# Altium schematic symbol library OpAmp_Sch.SchLib: 10 symbols
Pins are listed as number, name and electrical type; pins without a type are passive.

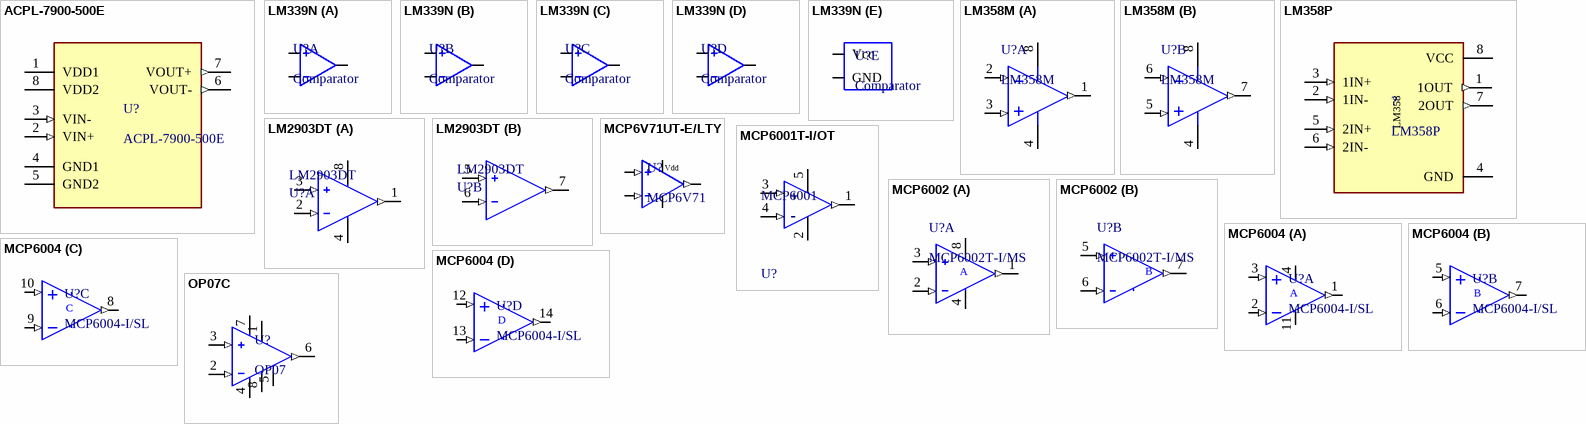
[diagram p0: symbols ACPL-7900-500E to OP07C]

## ACPL-7900-500E
designator U?
Isolation Amplifier 1 Circuit 8-DIP Gull Wing; MP: ACPL-7900-300E; MF: Broadcom Limited; Package: DIP-8 Broadcom; Mouser-Purchase-URL: https://snapeda.com/shop?store=Mouser&id=2642104; Availability: Warning; Price: None; Value: *; SnapEDA_Link: https://www.snapeda.com/parts/ACPL-7900-300E/Broadcom%20Limited/view-part/2642104/?ref=snap
footprint Option300
footprint PDIP-8
pins: 1 VDD1 (power), 2 VIN+ (in), 3 VIN- (in), 4 GND1, 5 GND2, 6 VOUT- (out), 7 VOUT+ (out), 8 VDD2 (power)

## LM339N
designator U?, comment Comparator
Quad Voltage Comparators
footprint PDIP-14
part A pins: 2 Output 1, 4 Input 1(-), 5 Input 1(+)
part B pins: 1 Output 2, 6 Input 2(-), 7 Input 2(+)
part C pins: 8 Input 3(-), 9 Input 3(+), 14 Output 3
part D pins: 10 Input 4(-), 11 Input 4(+), 13 Output 4
part E pins: 3 Vcc, 12 GND

## LM358M
designator U?
Low Power Dual Operational Amplifier, 8-pin Narrow SOIC; Manufacturer: Texas Instruments; PackageTopMarking: NSZXTT*LM*358M; CompType: Amplifiers; PowerWise: N; PackageDescription: SOIC Narrow, 4.9 x 3.9 x 1.45mm, 8 Lead, 1.27mm Pitch; PinCount: 8; RoHS: N; Code_JEDEC: MS-012-AA; ComponentLink1Description: Datasheet URL; Code_IPC: SOIC127P600-8; ComponentLink1URL: http://www.ti.com/general/docs/lit/getliterature.tsp?genericPartNumber=LM358-N&fileType=pdf; Package Reference: D0008A
footprint D0008A_N (SOIC, 8-Leads, Body 5x4mm, Pitch 1.27mm, IPC Medium Density)
footprint D0008A_M (SOIC, 8-Leads, Body 5x4mm, Pitch 1.27mm, IPC Low Density)
footprint D0008A_L (SOIC, 8-Leads, Body 5x4mm, Pitch 1.27mm, IPC High Density)
pins on every part: 4 GND (power), 8 V+ (power)
part A pins: 1 OUTA (out), 2 INA- (in), 3 INA+ (in)
part B pins: 5 INB+ (in), 6 INB- (in), 7 OUTB (out)

## LM358P
designator ?
Dual Operational Amplifiers; MF: Texas Instruments; Package: PDIP-8 Texas Instruments; DigiKey-Purchase-URL: https://snapeda.com/shop?store=DigiKey&id=559457; MP: LM358P; Arrow_Electronics-Purchase-URL: https://snapeda.com/shop?store=Arrow+Electronics&id=559457; Price: None; Texas_Instruments-Purchase-URL: https://snapeda.com/shop?store=Texas+Instruments&id=559457; Value: *; Availability: Unavailable; SnapEDA_Link: https://www.snapeda.com/parts/LM358P/Texas%20Instruments/view-part/559457/?ref=snap; Mouser-Purchase-URL: https://snapeda.com/shop?store=Mouser&id=559457
footprint PDIP-8
pins: 1 1OUT (out), 2 1IN- (in), 3 1IN+ (in), 4 GND (power), 5 2IN+ (in), 6 2IN- (in), 7 2OUT (out), 8 VCC (power)
text: LM358

## LM2903DT
designator U?
IC COMPARATOR LP DUAL 8-SOIC; Manufacturer: STMicroelectronics; Min Supply Voltage: 2V; Number Of Channels: 2; Input Offset Voltage: 1mV; Nominal Supply Current: 0.4-1mA; Output Current Per Channel: 16mA; Response Time: 1.3us; Voltage Gain: 200V/mV; Max Supply Voltage: 36V; Min Dual Supply Voltage: 1V; Standoff Height: 0.1mm; Input Bias Current: 0.025uA; Max Dual Supply Voltage: 18V; Max Junction Temp: +150°C; Height: 1.75mm; Device Class L2: Linear ICs; Temperature Range High: +150°C; Ambient Temperature Range Low: -40°C; Category: IC; Package: SO8-SO-A; Footprint Url: https://www.st.com/content/ccc/resource/technical/document/datasheet/group3/16/9a/68/4c/7d/03/4a/09/DM00396770/files/DM00396770.pdf/jcr:content/translations/en.DM00396770.pdf; Ipc Land Pattern Name: SOIC127P600X175-8; Octopart: https://octopart.com/lm2903dt-stmicroelectronics-428473; ComponentLink2URL: https://www.st.com/content/ccc/resource/technical/document/datasheet/44/f7/9d/99/42/20/45/fd/CD00000534.pdf/files/CD00000534.pdf/jcr:content/translations/en.CD00000534.pdf; Ambient Temperature Range High: +125°C; Device Class L1: Integrated Circuits (ICs); Device Class L3: Comparators; Digikey Description: IC COMPARATOR LP DUAL 8-SOIC; Automotive: No; ComponentLink2Description: Datasheet; Lead Free: Yes; Manufacturer Part Number: LM2903DT; Mouser Description: Analog Comparators Lo-Pwr Dual Voltage; Temperature: to +150°C; RoHS: TRUE
footprint FP-SO8-SO-A-MFG
footprint FP-SO8-SO-A-IPC_C
footprint FP-SO8-SO-A-IPC_B
footprint FP-SO8-SO-A-IPC_A
part A pins: 1 Out1 (out), 2 In1- (in), 3 In1+ (in), 4 VCC- (power), 8 VCC+ (power)
part B pins: 5 In2+ (in), 6 In2- (in), 7 Out2 (out)

## MCP6V71UT-E/LTY
designator U?, comment MCP6V71
MICROCHIP         MCP6V71UT-E/LTY             OP-AMP, SINGLE, 2MHZ, 1V/US, SC-70-5; Min Supply Voltage: 2V; Max Supply Voltage: 5.5V; Voltage Gain: 137dB; Number of Circuits: 1; Slew Rate: 1V/µs; Input Bias Current: 1pA; Input Offset Voltage (Vos): 8uV; Operating Supply Current: 170uA; Output Current per Channel: 26mA; Common Mode Rejection Ratio: 111dB; Supplier 1: Digi-Key; Manufacturer: Microchip; Manufacturer Part Number: MCP6V71UT-E/LTY; RoHS: Yes; Category: Amplifiers - Op Amps, Buffer, Instrumentation; Stock 1: 2685; Pricing 1: 1=1.13000, 25=0.95000, 100=0.86000 (USD); Mount: Surface Mount; Case/Package: SC; Number of Pins: 70; Min Operating Temperature: -40°C; Max Operating Temperature: 125°C; Packaging: Cut Tape; Gain Bandwidth Product: 2MHz; Bandwidth: 2MHz; Number of Amplifiers: 1; REACH SVHC: No SVHC; Lead Free: Lead Free; RoHS Compliant: Yes; ComponentLink1URL: http://www.mouser.com/ds/2/268/20005385A-765176.pdf?src-supplier=Mouser; ComponentLink1Description: http://www.mouser.com/ds/2/268/20005385A-765176.pdf?src-supplier=Mouser; ComponentLink2URL: http://www.microchip.com/mymicrochip/filehandler.aspx?ddocname=en573422&src-supplier=Digi-Key; ComponentLink2Description: http://www.microchip.com/mymicrochip/filehandler.aspx?ddocname=en573422&src-supplier=Digi-Key; ComponentLink3URL: http://www.farnell.com/datasheets/1908127.pdf?src-supplier=Element14; ComponentLink3Description: http://www.farnell.com/datasheets/1908127.pdf?src-supplier=Element14; ComponentLink4URL: http://ww1.microchip.com/downloads/en/DeviceDoc/20005385A.pdf?src-supplier=Avnet; ComponentLink4Description: http://ww1.microchip.com/downloads/en/DeviceDoc/20005385A.pdf?src-supplier=Avnet; ComponentLink5URL: http://www.farnell.com/datasheets/1975751.pdf?src-supplier=Element14; ComponentLink5Description: http://www.farnell.com/datasheets/1975751.pdf?src-supplier=Element14
footprint SOT23-5-MCP6V71_M
footprint SOT23-5-MCP6V71_L
footprint SOT23-5-MCP6V71_H
pins: 1 Vin(+) (in), 2 VSS (power), 3 Vin(-) (in), 4 Out (out), 5 VDD (power)
text: Vdd

## MCP6001T-I/OT
designator U?, comment MCP6001
IC OPAMP GP 1 CIRCUIT SOT23-5; Number of Amplifiers: 1; Power Supply Rejection Ratio (PSRR): 86dB; Common Mode Rejection Ratio: 60dB; Unity Gain Bandwidth Product: 1MHz; Slew Rate: 0.6V/µs; Output Current per Channel: 23mA; Nominal Supply Current: 100uA; Input Offset Voltage (Vos): 4.5mV; Input Bias Current: 1pA; Max Supply Voltage: 6V; Operating Supply Voltage: 5.5V; Min Supply Voltage: 1.8V; Voltage Gain: 112dB; Output Current: 23mA; Bandwidth: 1MHz; Case/Package: SOT-23; Operating Supply Current: 100uA; Number of Channels: 1; Gain Bandwidth Product: 1MHz; ComponentLink1Description: Link; ComponentLink1URL: *
footprint FP-C04-091-OT-IPC_A
footprint FP-C04-091-OT-IPC_B
footprint FP-C04-091-OT-IPC_C
footprint FP-C04-091-OT-MFG
pins: 1 VOUT (out), 2 VSS (power), 3 VIN+ (in), 4 VIN- (in), 5 VDD (power)
text: +; -

## MCP6002
designator U?, comment MCP6002T-I/MS
1 MHz, Low-Power Operational Amplifier; Supply Current: 100uA; Number of Amplifiers: 2; Max Frequency: 1kHz; Slew Rate: 0.6V/µs; Power Supply Rejection Ratio (PSRR): 86dB; Input Offset Voltage-Max: 4.5mV; Min Supply Voltage: 1.8V; Common Mode Rejection Ratio: 60dB; Max Supply Voltage: 6V; Bandwidth: 1MHz; Input Bias Current: 1pA; Voltage Gain: 112dB; Operating Supply Voltage: 5.5V; Output Current: 23mA; Technology: CMOS; Input Offset Voltage (Vos): 4.5mV; Nominal Supply Current: 100uA; Case/Package: MSOP; Unity Gain Bandwidth Product: 1MHz; Slew Rate-Nom: 0.6V/µs; Gain Bandwidth Product: 1MHz; ComponentLink1Description: Link
footprint MSOP-MS8_N (TSOP, 8-Leads, Body 3x3mm, Pitch 0.65mm, IPC Medium Density)
footprint MSOP-MS8_M (TSOP, 8-Leads, Body 3x3mm, Pitch 0.65mm, IPC Low Density)
footprint MSOP-MS8_L (TSOP, 8-Leads, Body 3x3mm, Pitch 0.65mm, IPC High Density)
footprint SOIC-SN8_N (SOIC, 8-Leads, Body 4.9x3.9mm, Pitch 1.27mm, IPC Medium Density)
footprint SOIC-SN8_M (SOIC, 8-Leads, Body 4.9x3.9mm, Pitch 1.27mm, IPC Low Density)
footprint SOIC-SN8_L (SOIC, 8-Leads, Body 4.9x3.9mm, Pitch 1.27mm, IPC High Density)
part A pins: 1 VOUTA (out), 2 VINA- (in), 3 VINA+ (in), 4 VSS, 8 VDD
part B pins: 5 VINB+ (in), 6 VINB- (in), 7 VOUTB (out)
part A text: A
part B text: B

## MCP6004
designator U?, comment MCP6004-I/SL
1 MHz, Low-Power Operational Amplifier, 14-Pin SOIC, Industrial Temperature; Code_JEDEC: MS-012-AB; PackageVersion: revBB, Aug-2009; Code_IPC: SOIC127P600-14; RevisionNote: URLs added.; PackageReference: SOIC-SL14; PackageDescription: 14-Lead Plastic Small Outline (SL) - Narrow, 3.90mm Body [SOIC]; DatasheetVersion: revJ, Nov-2009; ComponentLink4Description: Link
footprint SOIC-SL14_N (SOIC, 14-Leads, Body 8.7x3.9mm, Pitch 1.27mm, IPC Medium Density)
part A pins: 1 VOUTA (out), 2 VINA- (in), 3 VINA+ (in), 4 VDD, 11 VSS
part B pins: 5 VINB+ (in), 6 VINB- (in), 7 VOUTB (out)
part C pins: 8 VOUTC (out), 9 VINC- (in), 10 VINC+ (in)
part D pins: 12 VIND+ (in), 13 VIND- (in), 14 VOUTD (out)
part A text: A
part B text: B
part C text: C
part D text: D

## OP07C
designator U?, comment OP07
Low-offset voltage (0.25 mV) single operational amplifier 8-SOIC 0 to 70; Manufacturer: Texas Instruments; Manufacturer Part Number: OP07CDR; Voltage Gain: 112.04dB; Common Mode Rejection Ratio: 100dB; Slew Rate: 0.3V/µs; Input Offset Voltage (Vos): 150uV; Input Bias Current: 7nA; Gain Bandwidth Product: 600kHz; Number of Circuits: 1; Max Dual Supply Voltage: 18V; Min Dual Supply Voltage: 3V; Supply Current: 5mA; Output Current per Channel: 10mA; Pins: 8; Min Operating Temperature: 0°C; Max Operating Temperature: 70°C; Number of Channels: 1; Series: -; Bandwidth: 600kHz; Number of Elements: 1; Operating Supply Voltage: 18V; Nominal Gain Bandwidth Product: 600kHz; Max I/O Voltage: 150uV; Unity Gain Bandwidth Product: 600kHz; Number of Amplifiers: 1; Thickness: 1.58mm; ComponentLink1Description: Link; ComponentLink1URL: https://ozdisan.com/integrated-circuits-ics/linear-ics/amplifiers/OP07CDR/6712
footprint FP-SO8-SO-A-IPC_A
footprint FP-SO8-SO-A-IPC_B
footprint FP-SO8-SO-A-IPC_C
footprint FP-SO8-SO-A-MFG
pins: 1 OFFSET N1, 2 VINA- (in), 3 VINA+ (in), 4 -VCC, 5 NC, 6 VOUTA (out), 7 VDD, 8 OFFSET N2